# Altium schematic symbol library TPS62120.SchLib: 1 symbol
Pins are listed as number, name and electrical type; pins without a type are passive.

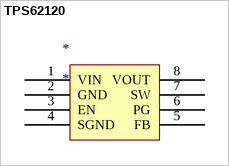
[diagram p0: symbol TPS62120]

## TPS62120
designator *
pins: 1 VIN, 2 GND, 3 EN, 4 SGND, 5 FB, 6 PG, 7 SW, 8 VOUT